# Altium footprint library Tests.PcbLib: 2 footprints
Each footprint in its own frame and in the unit in brackets; x right, y up, seen from the top. Pads: shape width x height; smd on the part's side, far side on the other; paste and mask are expansions set on the pad; w line width, h text height; cw(c..) or ccw(c..) is an arc to the next point about the centre after c.
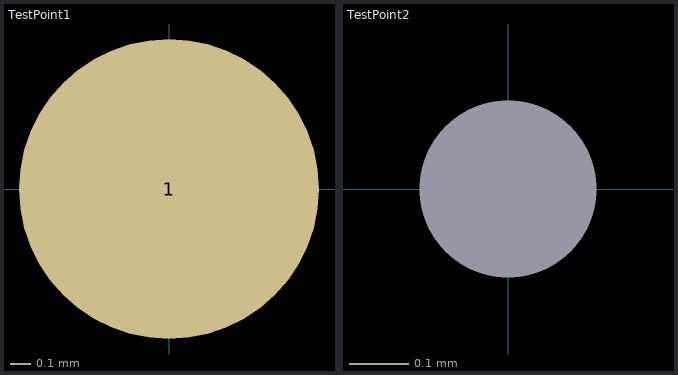
[diagram p0: the footprints below, top view; thin cyan lines are the x and y axes]

## TestPoint1 [mm]
pads (1):
  round 1.5 smd mask+0: 1(0,0)

## TestPoint2 [mm]
pads (1):
  round 0 / inner round 0 / far side round 1.5 hole 0.3 mask+0: 1(0,0)